# EAGLE library part AT25SF041 (library Heep)
AT25SF041 4Mb Serial Flash Memory 104MHz, SPI, 8-SOIC Datasheet <http://www.adestotech.com/wp-content/uploads/DS-AT25SF041_044.pdf> SparkFun Products: SparkFun ESP8266 Thing <https://www.sparkfun.com/products/13231> SparkFun ESP8266 Thing - Dev Board <https://www.sparkfun.com/products/13711>
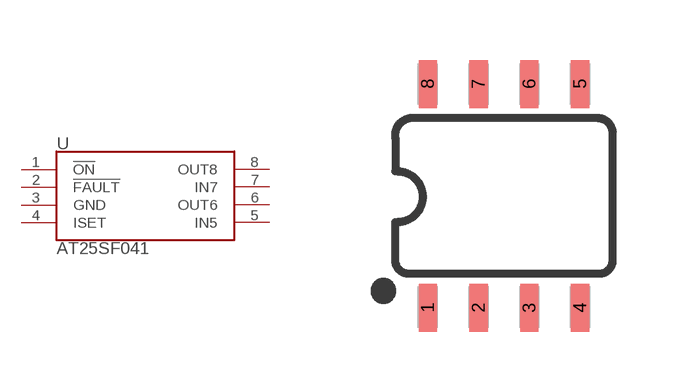
[diagram p7: symbol with the pads of SO08; footprint SO08]

Designator prefix U

## AT25SF041 (PROD_ID: IC-12455; VALUE: 4MB Flash)  [SO08]
1  !ON
2  !FAULT
3  GND
4  ISET
5  IN5
6  OUT6
7  IN7
8  OUT8

## Footprint SO08 (pad centres in mm)
SOIC, 0.15 inch width
smd 0.457 x 1.2: 1 -1.905,-2.8; 2 -0.635,-2.8; 3 0.635,-2.8; 4 1.905,-2.8; 5 1.905,2.8; 6 0.635,2.8; 7 -0.635,2.8; 8 -1.905,2.8